# EAGLE library part ACCELEROMETER (library PPMK_MSP430FR6989)
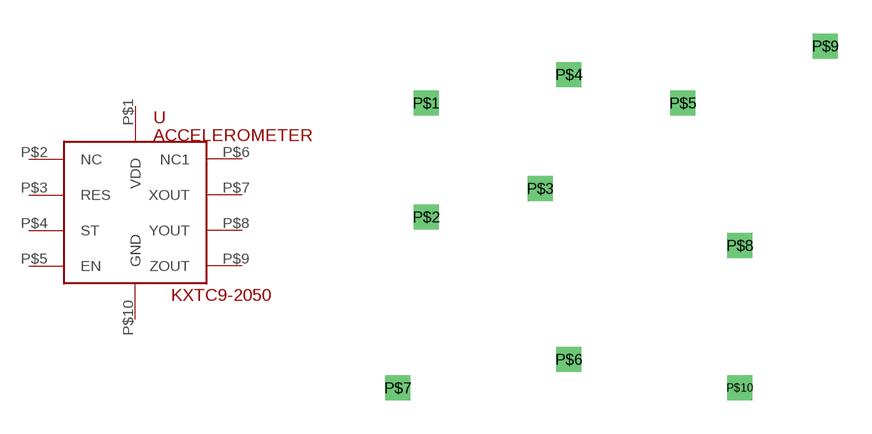
[diagram p2: symbol with the pads of ACCELEROMETER; footprint ACCELEROMETER]

Designator prefix -

## ACCELEROMETER  [ACCELEROMETER]
P$1  VDD
P$2  NC
P$3  RES
P$4  ST
P$5  EN
P$6  NC1
P$7  XOUT
P$8  YOUT
P$9  ZOUT
P$10  GND

## Footprint ACCELEROMETER (pad centres in mm)
drill 0.6 square: P$1 -20.32,3.81; P$2 -20.32,-1.27; P$3 -15.24,0; P$4 -13.97,5.08; P$5 -8.89,3.81; P$6 -13.97,-7.62; P$7 -21.59,-8.89; P$8 -6.35,-2.54; P$9 -2.54,6.35; P$10 -6.35,-8.89